# Altium schematic symbol library Components.SchLib: 2 symbols
Pins are listed as number, name and electrical type; pins without a type are passive.

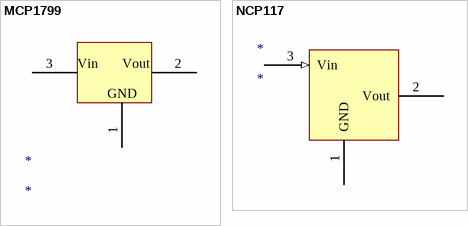
[diagram p0: symbols MCP1799 to NCP117]

## MCP1799
designator *
footprint MCP1799 (Voltage Regulators)
pins: 1 GND, 2 Vout (power), 3 Vin (power)

## NCP117
designator *
footprint MCP1799 (Voltage Regulators)
pins: 1 GND (power), 2 Vout (power), 3 Vin (in)